# EAGLE library part XR-2567 (library exar)
Dual monolithic REGULATOR
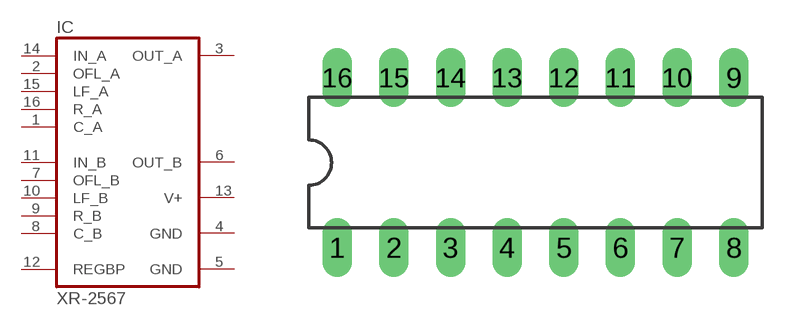
[diagram p96: symbol with the pads of DIL16; footprint DIL16]

Designator prefix IC

## XR-2567 (OC_FARNELL: unknown; OC_NEWARK: unknown)  [DIL16]
1  C_A  in
2  OFL_A  in
3  OUT_A  out
4  GND  pwr
5  GND  pwr
6  OUT_B  out
7  OFL_B  in
8  C_B  in
9  R_B  in
10  LF_B  in
11  IN_B  in
12  REGBP  in
13  V+  pwr
14  IN_A  in
15  LF_A  in
16  R_A  in

## Footprint DIL16 (pad centres in mm)
Dual In Line Package
drill 0.813 long: 1 -8.89,-3.81; 2 -6.35,-3.81; 3 -3.81,-3.81; 4 -1.27,-3.81; 5 1.27,-3.81; 6 3.81,-3.81; 7 6.35,-3.81; 8 8.89,-3.81; 9 8.89,3.81; 10 6.35,3.81; 11 3.81,3.81; 12 1.27,3.81; 13 -1.27,3.81; 14 -3.81,3.81; 15 -6.35,3.81; 16 -8.89,3.81